# EAGLE library part TJA1051T (library TJA1051T)
CANbus transceiver Check availability <https://pricing.snapeda.com/parts/TJA1051T/NXP%20USA/view-part?ref=eda>
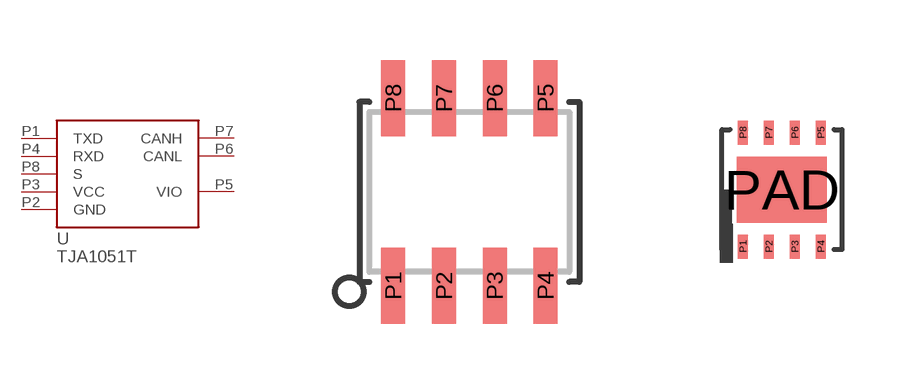
[diagram p0: symbol with the pads of SOIC-8; footprints SOIC-8, HVSON8_NXP]

Designator prefix U

## TJA1051T/3 (Availability: In Stock; Description: 1/1 Transceiver Half CANbus 8-SO; MF: NXP USA; MP: TJA1051T; Package: VDFN-8 NXP Semiconductors; Price: None; Purchase-URL: https://pricing.snapeda.com/search/part/TJA1051T/?ref=eda)  [SOIC-8]
P1  TXD
P2  GND
P3  VCC
P4  RXD
P5  VIO
P6  CANL
P7  CANH
P8  S

## TJA1051TK/3 (Availability: In Stock; Description: 1/1 Transceiver Half CANbus 8-SO; MF: NXP USA; MP: TJA1051T; Package: VDFN-8 NXP Semiconductors; Price: None; Purchase-URL: https://pricing.snapeda.com/search/part/TJA1051T/?ref=eda)  [HVSON8_NXP]
P1  TXD
P2  GND
P3  VCC
P4  RXD
P5  VIO
P6  CANL
P7  CANH
P8  S
PAD  GND

## Footprint SOIC-8 (pad centres in mm)
Small Outline IC
smd 0.6 x 1.9: P1 -1.905,-2.346; P2 -0.635,-2.346; P3 0.635,-2.346; P4 1.905,-2.346; P5 1.905,2.346; P6 0.635,2.346; P7 -0.635,2.346; P8 -1.905,2.346

## Footprint HVSON8_NXP (pad centres in mm)
smd 0.25 x 0.6: P1 -0.975,-1.425; P2 -0.325,-1.425; P3 0.325,-1.425; P4 0.975,-1.425; P5 0.975,1.425; P6 0.325,1.425; P7 -0.325,1.425; P8 -0.975,1.425
smd 2.25 x 1.65: PAD 0,0